# EAGLE library part MCP3X08 (library digital_dash)
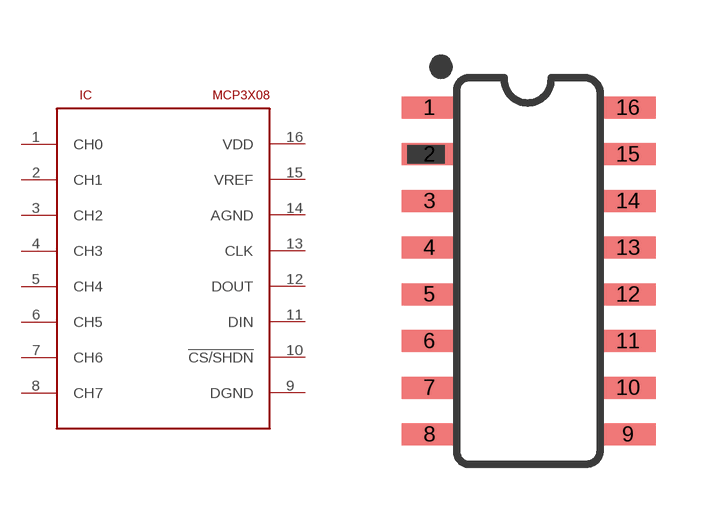
[diagram p2: symbol with the pads of SO16; footprint SO16]

Designator prefix IC

## MCP3X08  [SO16]
1  CH0  in
2  CH1  in
3  CH2  in
4  CH3  in
5  CH4  in
6  CH5  in
7  CH6  in
8  CH7  in
9  DGND  pwr
10  !CS/SHDN  in
11  DIN  in
12  DOUT  out
13  CLK  in
14  AGND  pwr
15  VREF  pwr
16  VDD  pwr

## MCP3X083208  [SO16]
Pads as for SO16

## MCP3X083008  [SO16]
Pads as for SO16

## Footprint SO16 (pad centres in mm)
SOIC-16 Specifications: Pin count: 16 Width:0.15" Example device(s): HEX_CONVERTER
smd 1.5 x 0.6: 1 -2.7,4.445; 2 -2.7,3.175; 3 -2.7,1.905; 4 -2.7,0.635; 5 -2.7,-0.635; 6 -2.7,-1.905; 7 -2.7,-3.175; 8 -2.7,-4.445; 9 2.7,-4.445; 10 2.7,-3.175; 11 2.7,-1.905; 12 2.7,-0.635; 13 2.7,0.635; 14 2.7,1.905; 15 2.7,3.175; 16 2.7,4.445